# Altium footprint library Passives.PcbLib: 75 footprints (part 3 of 5)
Each footprint in its own frame and in the unit in brackets; x right, y up, seen from the top. Pads: shape width x height; smd on the part's side, far side on the other; paste and mask are expansions set on the pad; w line width, h text height; cw(c..) or ccw(c..) is an arc to the next point about the centre after c.
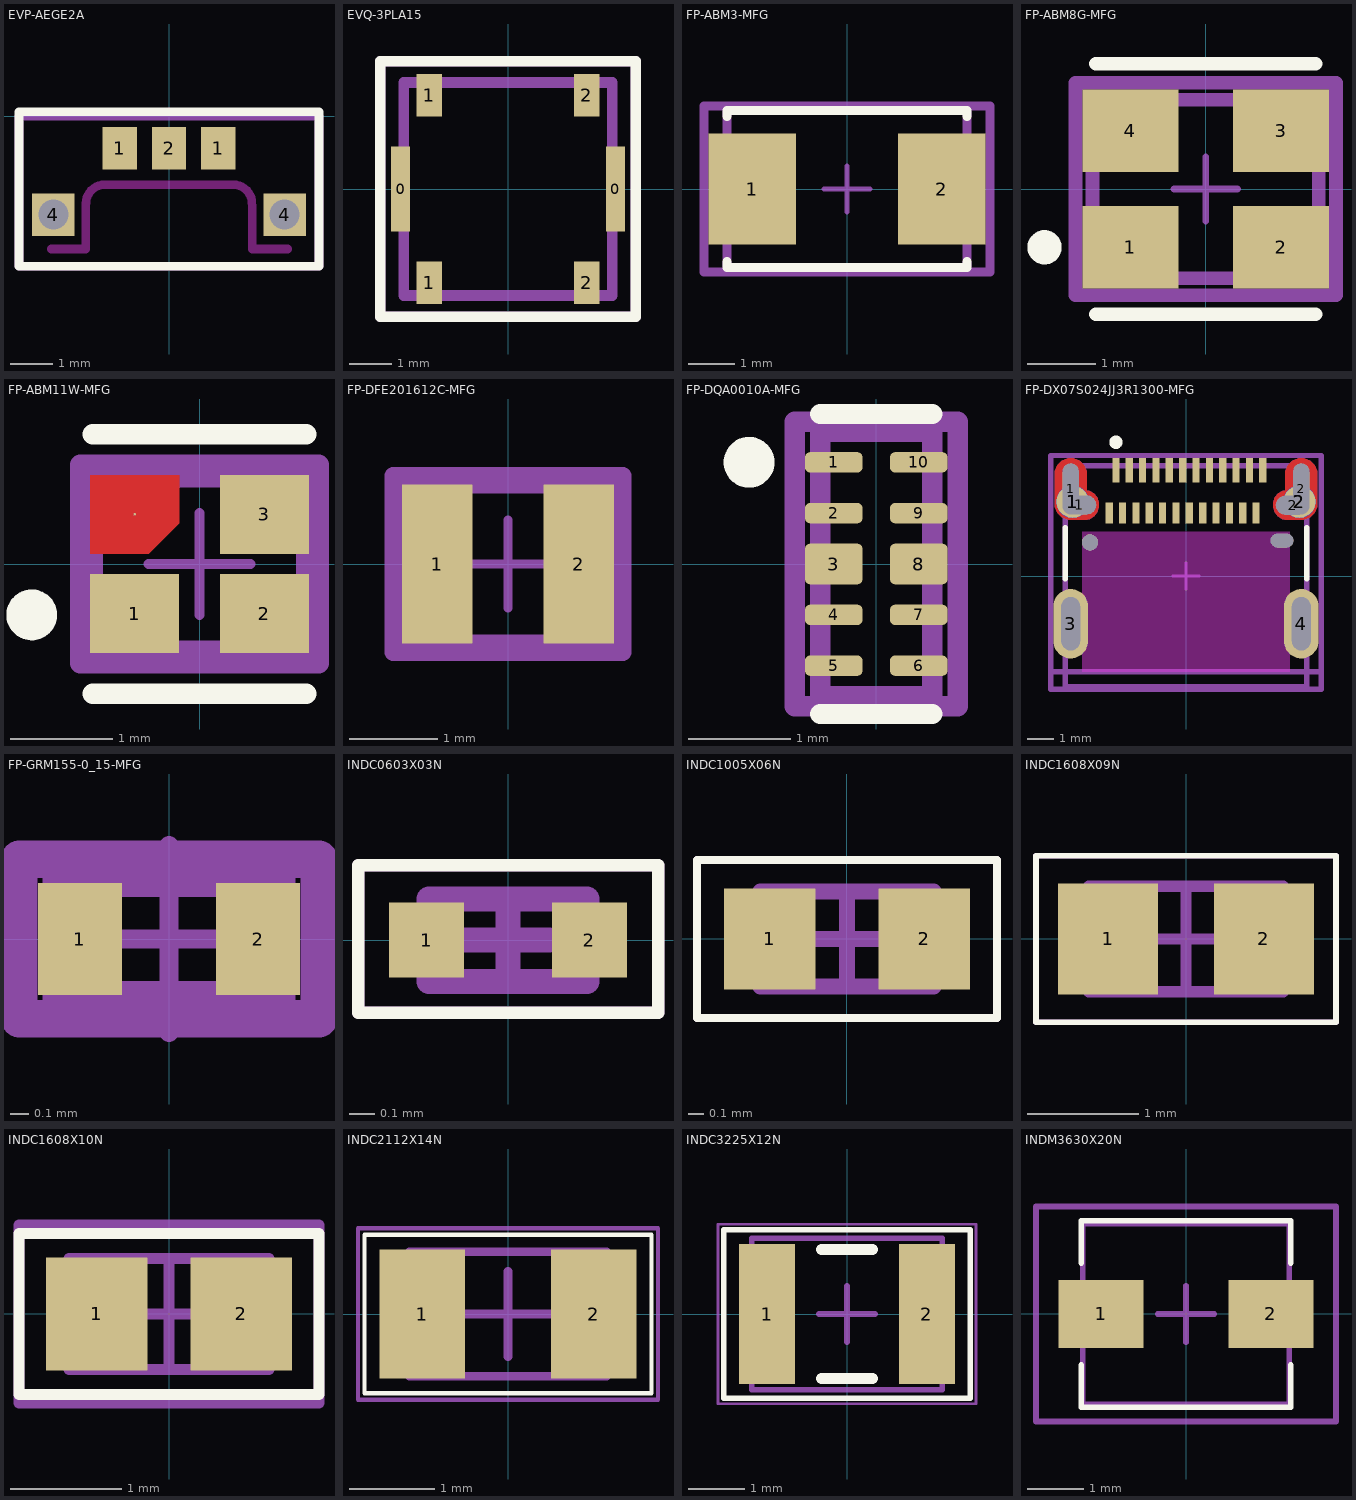
[diagram p2: the footprints below, top view; thin cyan lines are the x and y axes]

## EVP-AEGE2A [mm] "SWITCH TACTILE SPST-NO 0.02A 15V"
height 1.05
pads (5):
  rect 0.8x1 smd: 1(-1.15,-0.75) 1(1.15,-0.75) 2(0,-0.75)
  rect 1x1 hole 0.7 unplated: 4(-2.7,-2.3) 4(2.7,-2.3)
Top Overlay:
  lines w0.2: -3.5,-3.5 -3.5,0.1 3.5,0.1 3.5,-3.5 -3.5,-3.5
Keep-Out Layer:
  lines w0.2: -2.75,-3.1 -1.94,-3.1 -1.94,-2.025 ; -1.935,-2.03 cw(c-1.505,-2.03) -1.505,-1.6 1.5,-1.6 ; 1.505,-1.6 cw(c1.505,-2.03) 1.935,-2.03 ; 1.94,-2.08 1.94,-3.1 2.775,-3.1
Top Assembly:
  lines w0.2: -3.5,-3.5 3.5,-3.5 3.5,0 -3.5,0 -3.5,-3.5
Top Courtyard:
  lines w0.2: -3.5,-3.5 3.5,-3.5 3.5,0 -3.5,0 -3.5,-3.5
  text ".Designator" at -1.1,-1.075 h0.4
3D body "EVPAEGE2A.STEP": height 1, standoff -1.96, extent -2.75,-3.425 2.78,-0.825

## EVQ-3PLA15 [mm]
height 1.5
pads (6):
  rect 0.45x2 smd: 0(-2.525,0)
  rect 0.45x2 smd paste+0: 0(2.525,0)
  rect 0.6x1 smd paste+0: 1(-1.85,-2.2) 1(-1.85,2.2) 2(1.85,-2.2) 2(1.85,2.2)
Top Overlay:
  lines w0.254: -3,-3 -3,3 3,3 3,-3 -3,-3
Top 3D Body:
  lines w0.254: -2.45,-2.5 2.45,-2.5 2.45,2.5 -2.45,2.5 -2.45,-2.5
Top Assembly:
  lines w0.254: -3,-3 3,-3 3,3 -3,3 -3,-3
Top Courtyard:
  lines w0.254: -3,-3 -3,3 3,3 3,-3 -3,-3
  text ".Designator" at -0.1,-0.1 h1
3D body "EVQ-PLD_PLH_PLM_3PL_PT5_PT9-A15.STEP": height 1.5, standoff 0, extent -2.45,-2.5 2.45,2.5

## FP-ABM3-MFG [mm]
pads (2):
  rect 1.9x2.4 smd paste+0 mask+0: 1(-2.05,0) 2(2.05,0)
Top Overlay:
  lines w0.2: -2.6,-1.575 -2.6,-1.7 2.6,-1.7 2.6,-1.575 ; -2.6,1.575 -2.6,1.7 2.6,1.7 2.6,1.575
Top Component Center:
  lines w0.1: -0.5,0 0.5,0 ; 0,-0.5 0,0.5
Top 3D Body:
  lines w0.2: -2.6,-1.7 -2.6,1.7 2.6,1.7 2.6,-1.7 -2.6,-1.7
Top Assembly:
  lines w0.2: -3.1,-1.8 -3.1,1.8 3.1,1.8 3.1,-1.8 -3.1,-1.8
Top Courtyard:
  lines w0.2: -3.1,-1.8 -3.1,1.8 3.1,1.8 3.1,-1.8 -3.1,-1.8
  text ".Designator" at 0,0.188 h1
3D body "Crys_Abracon_ABM3-25_000MHZ-B2-T_eec.STEP": height 0.25, standoff 0, extent -3.1,-1.8 3.1,1.8

## FP-ABM8G-MFG [mm]
pads (4):
  rect 1.4x1.2 smd paste+0 mask+0: 1(-1.1,-0.85) 2(1.1,-0.85) 3(1.1,0.85) 4(-1.1,0.85)
Top Overlay:
  circle w0.25: c-2.35,-0.85 r0.125
  lines w0.2: -1.6,-1.825 1.6,-1.825 ; -1.6,1.825 1.6,1.825
Top Component Center:
  lines w0.1: -0.465,0 0.465,0 ; 0,-0.465 0,0.465
Top 3D Body:
  lines w0.2: -1.65,-1.3 -1.65,1.3 1.65,1.3 1.65,-1.3 -1.65,-1.3
Top Assembly:
  lines w0.2: -1.9,-1.55 -1.9,1.55 1.9,1.55 1.9,-1.55 -1.9,-1.55
Top Courtyard:
  lines w0.2: -1.9,-1.55 -1.9,1.55 1.9,1.55 1.9,-1.55 -1.9,-1.55
  text ".Designator" at 0,0.188 h1
3D body "Crys_Abracon_ABM8G-12_288MHZ-18-D2Y-T3_eec.STEP": height 0.25, standoff 0, extent -1.9,-1.55 1.9,1.55

## FP-ABM11W-MFG [mm]
pads (4):
  rect 0.875x0.775 smd paste+0 mask+0: 1(-0.637,-0.487) 2(0.637,-0.487) 3(0.637,0.487)
  round 0.025 smd paste+0 mask+0: 4(-0.637,0.487)
Top Layer:
  region: -0.5,0.1 -0.2,0.4 -0.2,0.875 -1.075,0.875 -1.075,0.1
Top Overlay:
  circle w0.25: c-1.65,-0.5 r0.125
  lines w0.2: -1.05,-1.275 1.05,-1.275 ; -1.05,1.275 1.05,1.275
Top Component Center:
  lines w0.1: -0.5,0 0.5,0 ; 0,-0.5 0,0.5
Top 3D Body:
  lines w0.2: -1.05,-0.85 -1.05,0.85 1.05,0.85 1.05,-0.85 -1.05,-0.85
Top Assembly:
  lines w0.2: -1.175,-0.975 -1.175,0.975 1.175,0.975 1.175,-0.975 -1.175,-0.975
Top Courtyard:
  lines w0.2: -1.175,-0.975 -1.175,0.975 1.175,0.975 1.175,-0.975 -1.175,-0.975
  text ".Designator" at -2.251,-0.226 h1
3D body "ABM11W-32.0000MHZ-8-B1U-T3.STEP": height 0.5, standoff 0, extent -1,-0.8 1,0.8

## FP-DFE201612C-MFG [mm]
pads (2):
  rect 0.8x1.8 smd paste+0 mask+0: 1(-0.8,0) 2(0.8,0)
Top Component Center:
  lines w0.1: -0.5,0 0.5,0 ; 0,-0.5 0,0.5
Top 3D Body:
  lines w0.2: -1.1,-0.9 1.1,-0.9 1.1,0.9 -1.1,0.9 -1.1,-0.9
Top Assembly:
  lines w0.2: -1.3,-1 1.3,-1 1.3,1 -1.3,1 -1.3,-1
Top Courtyard:
  lines w0.2: -1.3,-1 1.3,-1 1.3,1 -1.3,1 -1.3,-1
  text ".Designator" at 0,0.188 h1
3D body "Ind_Murata_1286AS-H-1R0M=P2_eec.STEP": height 0.25, standoff 0, extent -1.3,-1 1.3,1

## FP-DQA0010A-MFG [mm]
pads (10):
  rrect50% 0.565x0.2 smd paste+0 mask+0: 1(-0.417,1) 2(-0.417,0.5) 4(-0.417,-0.5) 5(-0.417,-1) 6(0.417,-1) 7(0.417,-0.5) 9(0.417,0.5) 10(0.417,1)
  rrect25% 0.565x0.4 smd paste-1000 mask+0: 3(-0.417,0) 8(0.417,0)
Top Overlay:
  circle w0.25: c-1.25,1 r0.125
  lines w0.2: -0.55,-1.475 0.55,-1.475 ; -0.55,1.475 0.55,1.475
Top Paste:
  region: 0.7,0.13 0.7,-0.13 0.7,-0.14 0.692,-0.158 0.678,-0.172 0.66,-0.18 0.65,-0.18 0.185,-0.18 0.175,-0.18 0.157,-0.172 0.143,-0.158 0.135,-0.14 0.135,-0.13 0.135,0.13 0.135,0.14 0.143,0.158 0.157,0.172 0.175,0.18 0.185,0.18 0.65,0.18 0.66,0.18 0.678,0.172 0.692,0.158 0.7,0.14
  region: -0.65,-0.18 -0.66,-0.18 -0.678,-0.172 -0.692,-0.158 -0.7,-0.14 -0.7,-0.13 -0.7,0.13 -0.7,0.14 -0.692,0.158 -0.678,0.172 -0.66,0.18 -0.65,0.18 -0.185,0.18 -0.175,0.18 -0.157,0.172 -0.143,0.158 -0.135,0.14 -0.135,0.13 -0.135,-0.13 -0.135,-0.14 -0.143,-0.158 -0.157,-0.172 -0.175,-0.18 -0.185,-0.18
Top 3D Body:
  lines w0.2: -0.55,-1.3 -0.55,1.3 0.55,1.3 0.55,-1.3 -0.55,-1.3
Top Courtyard:
  lines w0.2: -0.8,-1.4 -0.8,1.4 0.8,1.4 0.8,-1.4 -0.8,-1.4
  text ".Designator" at 0.12,0.287 h0.5
3D body "Diode_Texas_Instruments_ESD204DQAR_eec.STEP": height 0.25, standoff 0, extent -0.8,-1.4 0.8,1.4

## FP-DX07S024JJ3R1300-MFG [mm]
pads (36):
  rrect100% 0.6x1.9 hole 1.9 slot 0.6 at 0 deg paste-2539.97 mask+0: 1(-4.32,3.265) 2(4.32,3.265)
  round 1.207 smd far side paste-1000 mask+0: 1(-4.25,2.785) 2(4.25,2.785)
  round 1.207 smd paste-1000 mask+0: 1(-4.25,2.785) 2(4.25,2.785)
  rrect100% 1.25x0.7 hole 0.7 slot 1.25 at 0 deg paste-2539.97 mask+0: 1(-3.995,2.665) 2(3.995,2.655)
  rrect100% 1.3x2.6 hole 2 slot 0.7 at 0 deg paste-2539.97 mask+0: 3(-4.32,-1.785) 4(4.32,-1.785)
  rect 0.27x0.9 smd paste+0 mask+0: A1(-2.625,3.965) A2(-2.125,3.965) A3(-1.625,3.965) A4(-1.125,3.965) A5(-0.625,3.965) A6(-0.125,3.965) A7(0.375,3.965) A8(0.875,3.965) A9(1.375,3.965) A10(1.875,3.965) A11(2.375,3.965) A12(2.875,3.965)
  rect 0.27x0.8 smd paste+0 mask+0: B1(2.625,2.365) B2(2.125,2.365) B3(1.625,2.365) B4(1.125,2.365) B5(0.625,2.365) B6(0.125,2.365) B7(-0.375,2.365) B8(-0.875,2.365) B9(-1.375,2.365) B10(-1.875,2.365) B11(-2.375,2.365) B12(-2.875,2.365)
  round 0.6 hole 0.6 unplated paste-2539.97 mask+0: ""(-3.6,1.265)
  rrect100% 0.85x0.5 hole 0.5 slot 0.85 at 0 deg unplated paste-2539.97 mask+0: ""(3.6,1.33)
Top Layer:
  region: -4.92,3.815 -4.92,3.934 -4.829,4.155 -4.66,4.324 -4.439,4.415 -4.32,4.415 -4.201,4.415 -3.98,4.324 -3.811,4.155 -3.72,3.934 -3.72,3.815 -3.72,3.215 -3.624,3.197 -3.456,3.098 -3.332,2.947 -3.268,2.763 -3.27,2.665 -3.268,2.57 -3.328,2.388 -3.445,2.238 -3.607,2.136 -3.7,2.115 -4.32,2.115 -4.439,2.115 -4.66,2.206 -4.829,2.375 -4.92,2.596 -4.92,2.715
  region: 4.92,3.815 4.92,3.934 4.829,4.155 4.66,4.324 4.439,4.415 4.32,4.415 4.201,4.415 3.98,4.324 3.811,4.155 3.72,3.934 3.72,3.815 3.72,3.215 3.624,3.197 3.456,3.098 3.332,2.947 3.268,2.763 3.27,2.665 3.268,2.57 3.328,2.388 3.445,2.238 3.607,2.136 3.7,2.115 4.32,2.115 4.439,2.115 4.66,2.206 4.829,2.375 4.92,2.596 4.92,2.715
Bottom Layer:
  region: -4.92,3.815 -4.92,3.934 -4.829,4.155 -4.66,4.324 -4.439,4.415 -4.32,4.415 -4.201,4.415 -3.98,4.324 -3.811,4.155 -3.72,3.934 -3.72,3.815 -3.72,3.215 -3.624,3.197 -3.456,3.098 -3.332,2.947 -3.268,2.763 -3.27,2.665 -3.268,2.57 -3.328,2.388 -3.445,2.238 -3.607,2.136 -3.7,2.115 -4.32,2.115 -4.439,2.115 -4.66,2.206 -4.829,2.375 -4.92,2.596 -4.92,2.715
  region: 4.92,3.815 4.92,3.934 4.829,4.155 4.66,4.324 4.439,4.415 4.32,4.415 4.201,4.415 3.98,4.324 3.811,4.155 3.72,3.934 3.72,3.815 3.72,3.215 3.624,3.197 3.456,3.098 3.332,2.947 3.268,2.763 3.27,2.665 3.268,2.57 3.328,2.388 3.445,2.238 3.607,2.136 3.7,2.115 4.32,2.115 4.439,2.115 4.66,2.206 4.829,2.375 4.92,2.596 4.92,2.715
Top Overlay:
  circle w0.25: c-2.625,5.015 r0.125
  lines w0.2: -4.52,-0.11 -4.52,1.805 ; 4.52,-0.11 4.52,1.805
Keep-Out Layer:
  rectangle: -3.9,-3.585 3.9,1.665
Top Component Center:
  lines w0.1: -0.5,0 0.5,0 ; 0,-0.5 0,0.5
Top 3D Body:
  lines w0.2: -5.07,-3.585 5.07,-3.585 ; -4.52,-4.135 4.52,-4.135 4.52,4.135 -4.52,4.135 -4.52,-4.135
Top Assembly:
  lines w0.2: -5.07,-4.235 5.07,-4.235 5.07,4.515 -5.07,4.515 -5.07,-4.235
  text ".Designator" at -0.125,-0.066 h1
Top Courtyard:
  lines w0.2: -5.07,-4.235 5.07,-4.235 5.07,4.515 -5.07,4.515 -5.07,-4.235
3D body "Conn_JAE_Electronics_DX07S024JJ3R1300_eec.STEP": height 0.25, standoff 0, extent -5.07,-4.235 5.07,4.515

## FP-GRM155-0_15-MFG [mm]
pads (2):
  rect 0.45x0.6 smd paste+0 mask+0: 1(-0.475,0) 2(0.475,0)
Top Component Center:
  lines w0.1: -0.5,0 0.5,0 ; 0,-0.5 0,0.5
Top 3D Body:
  lines w0.2: -0.575,-0.325 0.575,-0.325 0.575,0.325 -0.575,0.325 -0.575,-0.325
Top Assembly:
  lines w0.2: -0.8,-0.425 0.8,-0.425 0.8,0.425 -0.8,0.425 -0.8,-0.425
Top Courtyard:
  lines w0.2: -0.8,-0.425 0.8,-0.425 0.8,0.425 -0.8,0.425 -0.8,-0.425
  text ".Designator" at 0,0.188 h1
3D body "Cap_Murata_GRM155R61A475MEAAD_eec.STEP": height 0.25, standoff 0, extent -0.8,-0.425 0.8,0.425

## INDC0603X03N [mm] "Chip Inductor, 2-Leads, Body 0.60x0.30mm, IPC Medium Density"
height 0.33
pads (2):
  rect 0.3x0.3 smd mask+0.04: 1(-0.325,0) 2(0.325,0)
Top Overlay:
  lines w0.05: -0.6,-0.29 -0.6,0.3 0.6,0.3 0.6,-0.29 -0.6,-0.29
Top 3D Body:
  lines w0.1: -0.315,-0.165 -0.315,0.165 0.315,0.165 0.315,-0.165 -0.315,-0.165
Top Assembly:
  lines w0.05: -0.6,-0.29 0.6,-0.29 0.6,0.3 -0.6,0.3 -0.6,-0.29
  lines w0.1: -0.165,0 0.165,0 ; 0,-0.165 0,0.165
Top Courtyard:
  lines w0.05: -0.6,-0.29 0.6,-0.29 0.6,0.3 -0.6,0.3 -0.6,-0.29
  text ".Designator" at -0.572,-0.075 h0.4
3D body: height 0.33, standoff 0, extent -0.165,-0.165 0.165,0.165
3D body: height 0.33, standoff 0, extent -0.315,-0.165 -0.165,0.165
3D body: height 0.33, standoff 0, extent 0.165,-0.165 0.315,0.165

## INDC1005X06N [mm] "Chip Inductor, 2-Leads, Body 1.00x0.50mm, IPC Medium Density"
height 0.6
pads (2):
  rect 0.58x0.64 smd: 1(-0.49,0) 2(0.49,0)
Top Overlay:
  lines w0.05: -0.95,-0.5 -0.95,0.5 0.95,0.5 0.95,-0.5 -0.95,-0.5
Top 3D Body:
  lines w0.1: -0.55,-0.3 -0.55,0.3 0.55,0.3 0.55,-0.3 -0.55,-0.3
Top Assembly:
  lines w0.05: -0.95,-0.5 0.95,-0.5 0.95,0.5 -0.95,0.5 -0.95,-0.5
  lines w0.1: -0.3,0 0.3,0 ; 0,-0.3 0,0.3
Top Courtyard:
  lines w0.05: -0.95,-0.5 0.95,-0.5 0.95,0.5 -0.95,0.5 -0.95,-0.5
  text ".Designator" at -0.771,-0.081 h0.5
3D body "INDC1005X06N.step": height 0.6, standoff 0, extent -0.55,-0.3 0.55,0.3

## INDC1608X09N [mm] "Chip Inductor, 2-Leads, Body 1.60x0.80mm, IPC Medium Density"
height 0.95
pads (2):
  rect 0.9x1 smd: 1(-0.7,0) 2(0.7,0)
Top Overlay:
  lines w0.05: -1.35,-0.75 -1.35,0.75 1.35,0.75 1.35,-0.75 -1.35,-0.75
Top 3D Body:
  lines w0.1: -0.875,-0.475 -0.875,0.475 0.875,0.475 0.875,-0.475 -0.875,-0.475
Top Assembly:
  lines w0.05: -1.35,-0.75 1.35,-0.75 1.35,0.75 -1.35,0.75 -1.35,-0.75
  lines w0.1: -0.475,0 0.475,0 ; 0,-0.475 0,0.475
Top Courtyard:
  lines w0.05: -1.35,-0.75 1.35,-0.75 1.35,0.75 -1.35,0.75 -1.35,-0.75
  text ".Designator" at -0.45,-0.175 h0.4
3D body "INDC1608X09N.step": height 0.95, standoff 0, extent -0.875,-0.475 0.875,0.475

## INDC1608X10N [mm] "Chip Inductor, 2-Leads, Body 1.60x0.80mm, IPC Medium Density"
height 1
pads (2):
  rect 0.91x1.02 smd: 1(-0.65,0) 2(0.65,0)
Top Overlay:
  lines w0.1: -1.35,-0.725 1.35,-0.725 1.35,0.725 -1.35,0.725 -1.35,-0.725
Top 3D Body:
  lines w0.1: -0.9,-0.5 0.9,-0.5 0.9,0.5 -0.9,0.5 -0.9,-0.5
Top Assembly:
  lines w0.1: -0.5,0 0.5,0 ; 0,-0.5 0,0.5 ; -1.35,-0.8 -1.35,0.8 1.35,0.8 1.35,-0.8 -1.35,-0.8
Top Courtyard:
  lines w0.1: -1.35,-0.8 -1.35,0.8 1.35,0.8 1.35,-0.8 -1.35,-0.8
  text ".Designator" at -0.425,-0.225 h0.5
3D body "INDC1608X10N.step": height 1, standoff 0, extent -0.9,-0.5 0.9,0.5

## INDC2112X14N [mm] "Chip Inductor, 2-Leads, Body 2.10x1.25mm, IPC Medium Density"
height 1.45
pads (2):
  rect 1x1.5 smd: 1(-1,0) 2(1,0)
Top Overlay:
  lines w0.05: -1.675,-0.925 -1.675,0.925 1.675,0.925 1.675,-0.925 -1.675,-0.925
Top 3D Body:
  lines w0.1: -1.15,-0.725 -1.15,0.725 1.15,0.725 1.15,-0.725 -1.15,-0.725
Top Assembly:
  lines w0.05: -1.75,-1 1.75,-1 1.75,1 -1.75,1 -1.75,-1
  lines w0.1: -0.5,0 0.5,0 ; 0,-0.5 0,0.5
Top Courtyard:
  lines w0.05: -1.75,-1 1.75,-1 1.75,1 -1.75,1 -1.75,-1
  text ".Designator" at -0.425,-0.2 h0.4
3D body: height 1.45, standoff 0, extent -0.7,-0.725 0.7,0.725
3D body: height 1.45, standoff 0, extent -1.15,-0.725 -0.7,0.725
3D body: height 1.45, standoff 0, extent 0.7,-0.725 1.15,0.725

## INDC3225X12N [mm] "Chip Inductor, 2-Leads, Body 3.20x2.50mm, IPC Medium Density"
height 1.2
pads (2):
  rect 1x2.5 smd: 1(-1.425,0) 2(1.425,0)
Top Overlay:
  lines w0.1: -2.2,-1.5 -2.2,1.5 2.2,1.5 2.2,-1.5 -2.2,-1.5
  lines w0.2: -0.45,-1.15 0.45,-1.15 ; -0.45,1.15 0.45,1.15
Top 3D Body:
  lines w0.1: -1.7,-1.35 -1.7,1.35 1.7,1.35 1.7,-1.35 -1.7,-1.35
Top Assembly:
  lines w0.05: -2.3,-1.6 -2.3,1.6 2.3,1.6 2.3,-1.6 -2.3,-1.6
  lines w0.1: -0.5,0 0.5,0 ; 0,-0.5 0,0.5
Top Courtyard:
  lines w0.05: -2.3,-1.6 2.3,-1.6 2.3,1.6 -2.3,1.6 -2.3,-1.6
  text ".Designator" at -0.1,-0.1 h1
3D body "INDC3225X12N.step": height 1.2, standoff 0, extent -1.7,-1.35 1.7,1.35

## INDM3630X20N [mm] "Molded Inductor, 2-Leads, Body 3.65x3.00mm, IPC Medium Density"
height 2
pads (2):
  rect 1.5x1.2 smd: 1(-1.5,0) 2(1.5,0)
Top Overlay:
  lines w0.1: -1.85,-0.9 -1.85,-1.65 1.85,-1.65 1.85,-0.9 ; -1.85,0.9 -1.85,1.65 1.85,1.65 1.85,0.9
Top 3D Body:
  lines w0.1: -1.825,-1.6 1.825,-1.6 1.825,1.6 -1.825,1.6 -1.825,-1.6
Top Assembly:
  lines w0.1: -0.5,0 0.5,0 ; 0,-0.5 0,0.5 ; -2.65,-1.9 -2.65,1.9 2.65,1.9 2.65,-1.9 -2.65,-1.9
Top Courtyard:
  lines w0.1: -2.65,-1.9 2.65,-1.9 2.65,1.9 -2.65,1.9 -2.65,-1.9
  text ".Designator" at -1.05,-0.625 h1.2
3D body: height 2, standoff 0, extent -1.825,-1.6 1.825,1.6